# EAGLE library part BMA180 (library SparkFun-20100301)
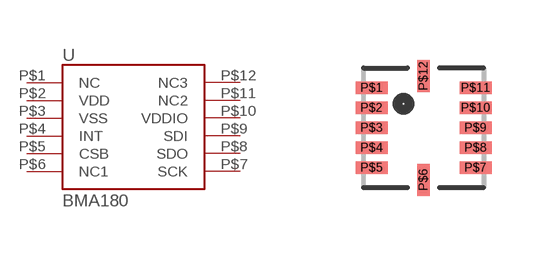
[diagram p290: symbol with the pads of LGA12; footprint LGA12]

Designator prefix -

## BMA180  [LGA12]
P$1  NC
P$2  VDD
P$3  VSS
P$4  INT
P$5  CSB
P$6  NC1
P$7  SCK
P$8  SDO
P$9  SDI
P$10  VDDIO
P$11  NC2
P$12  NC3

## Footprint LGA12 (pad centres in mm)
smd 0.8 x 0.32: P$1 -1.3,1; P$2 -1.3,0.5; P$3 -1.3,0; P$4 -1.3,-0.5; P$5 -1.3,-1; P$7 1.3,-1; P$8 1.3,-0.5; P$9 1.3,0; P$10 1.3,0.5; P$11 1.3,1
smd 0.32 x 0.8: P$6 0,-1.3; P$12 0,1.3